# EAGLE library part GAL22V10 (library 68komputer)
GAL22V10D – Generic Array Logic Datasheet <http://web.mit.edu/6.115/www/document/gal22v10.pdf>
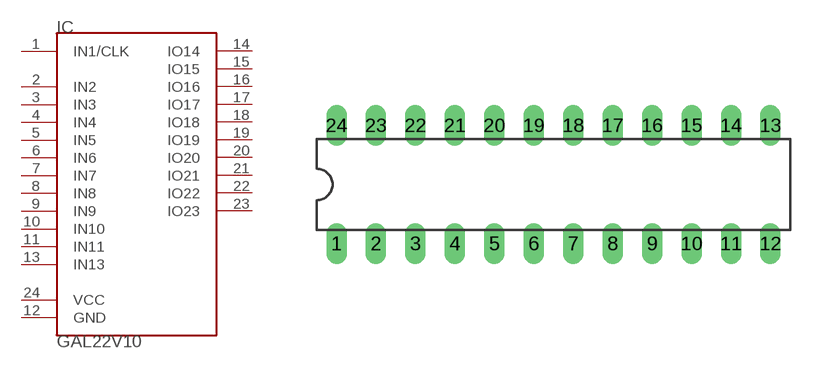
[diagram p26: symbol with the pads of DIL24S; footprint DIL24S]

Designator prefix IC

## GAL22V10DIP24 (VALUE: GAL22V10D)  [DIL24S]
1  IN1/CLK  in
2  IN2  in
3  IN3  in
4  IN4  in
5  IN5  in
6  IN6  in
7  IN7  in
8  IN8  in
9  IN9  in
10  IN10  in
11  IN11  in
12  GND  pwr
13  IN13  in
14  IO14
15  IO15
16  IO16
17  IO17
18  IO18
19  IO19
20  IO20
21  IO21
22  IO22
23  IO23
24  VCC  pwr

## Footprint DIL24S (pad centres in mm)
Dual In Line Package Small
drill 0.813 long: 1 -13.97,-3.81; 2 -11.43,-3.81; 3 -8.89,-3.81; 4 -6.35,-3.81; 5 -3.81,-3.81; 6 -1.27,-3.81; 7 1.27,-3.81; 8 3.81,-3.81; 9 6.35,-3.81; 10 8.89,-3.81; 11 11.43,-3.81; 12 13.97,-3.81; 13 13.97,3.81; 14 11.43,3.81; 15 8.89,3.81; 16 6.35,3.81; 17 3.81,3.81; 18 1.27,3.81; 19 -1.27,3.81; 20 -3.81,3.81; 21 -6.35,3.81; 22 -8.89,3.81; 23 -11.43,3.81; 24 -13.97,3.81